# EAGLE library part SCREW_TERMINAL_X6 (library screw_terminals)
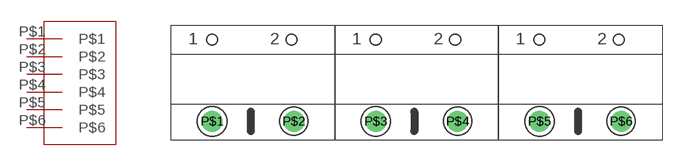
[diagram p0: symbol with the pads of SCREW_TERMIANL_X6; footprint SCREW_TERMIANL_X6]

Designator prefix -

## SCREW_TERMINAL_X6  [SCREW_TERMIANL_X6]
P$1  P$1
P$2  P$2
P$3  P$3
P$4  P$4
P$5  P$5
P$6  P$6

## Footprint SCREW_TERMIANL_X6 (pad centres in mm)
drill 1 pad 2.184: P$1 -3.37,-3.08; P$2 5.13,-3.08; P$3 13.648,-3.08; P$4 22.148,-3.08; P$5 30.666,-3.08; P$6 39.166,-3.08